# Altium footprint library OV7670.PcbLib: 1 footprints
Each footprint in its own frame and in the unit in brackets; x right, y up, seen from the top. Pads: shape width x height; smd on the part's side, far side on the other; paste and mask are expansions set on the pad; w line width, h text height; cw(c..) or ccw(c..) is an arc to the next point about the centre after c.
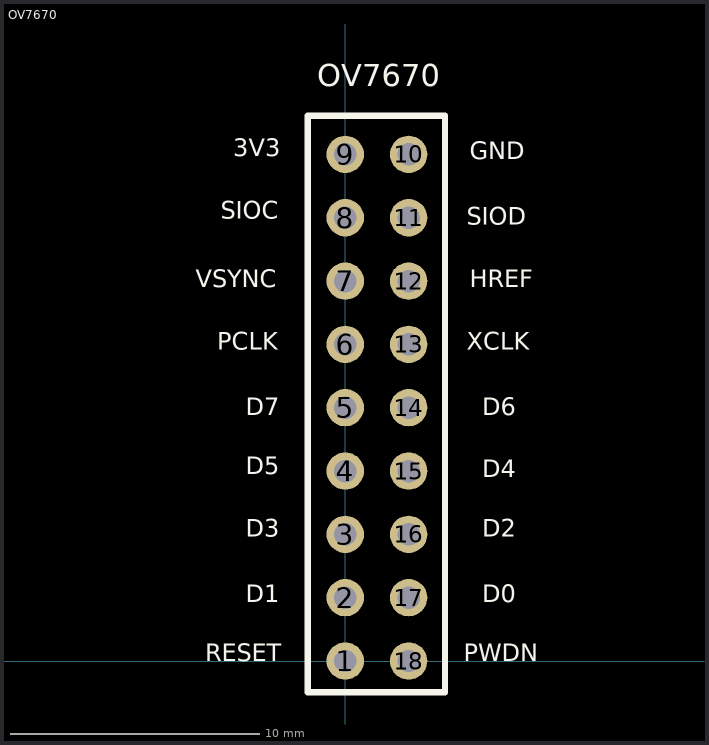
[diagram p0: the footprint, top view; thin cyan lines are the x and y axes]

## OV7670 [mm]
pads (18):
  round 1.5 hole 0.9: 1(0,0) 2(0,2.54) 3(0,5.08) 4(0,7.62) 5(0,10.16) 6(0,12.7) 7(0,15.24) 8(0,17.78) 9(0,20.32) 10(2.54,20.32) 11(2.54,17.78) 12(2.54,15.24) 13(2.54,12.7) 14(2.54,10.16) 15(2.54,7.62) 16(2.54,5.08) 17(2.54,2.54) 18(2.54,0)
Top Overlay:
  lines w0.254: -1.25,21.875 4,21.875 4,-1.25 -1.25,-1.25 -1.5,-1.25 -1.5,21.875 -0.875,21.875
  text "PWDN" at 4.75,-0.25 h1.2
  text "D0" at 5.5,2.125 h1.2
  text "D2" at 5.5,4.75 h1.2
  text "D4" at 5.5,7.125 h1.2
  text "D6" at 5.5,9.625 h1.2
  text "XCLK" at 4.875,12.25 h1.2
  text "HREF" at 5,14.75 h1.2
  text "SIOD" at 4.875,17.25 h1.2
  text "GND" at 5,19.875 h1.2
  text "RESET" at -5.625,-0.25 h1.2
  text "D1" at -4,2.125 h1.2
  text "D3" at -4,4.75 h1.2
  text "D5" at -4,7.25 h1.2
  text "D7" at -4,9.625 h1.2
  text "PCLK" at -5.125,12.25 h1.2
  text "VSYNC" at -6,14.75 h1.2
  text "SIOC" at -5,17.5 h1.2
  text "3V3" at -4.5,20 h1.2
  text "OV7670" at -1.125,22.75 h1.52
3D body "2pin_header__02.sldprt": height 8.5, standoff -3.25, extent -1.24,-1.27 3.76,1.27
3D body "2pin_header__02.sldprt": height 8.5, standoff -3.25, extent -1.25,1.27 3.75,3.81
3D body "2pin_header__02.sldprt": height 8.5, standoff -3.25, extent -1.25,3.81 3.75,6.35
3D body "2pin_header__02.sldprt": height 8.5, standoff -3.25, extent -1.25,6.35 3.75,8.89
3D body "2pin_header__02.sldprt": height 8.5, standoff -3.25, extent -1.25,8.89 3.75,11.43
3D body "2pin_header__02.sldprt": height 8.5, standoff -3.25, extent -1.25,11.43 3.75,13.97
3D body "2pin_header__02.sldprt": height 8.5, standoff -3.25, extent -1.25,13.97 3.75,16.51
3D body "2pin_header__02.sldprt": height 8.5, standoff -3.25, extent -1.25,16.51 3.75,19.05
3D body "2pin_header__02.sldprt": height 8.5, standoff -3.25, extent -1.25,19.185 3.75,21.725